# Altium schematic symbol library dsPIC30F3011.SCHLIB: 1 symbol
Pins are listed as number, name and electrical type; pins without a type are passive.

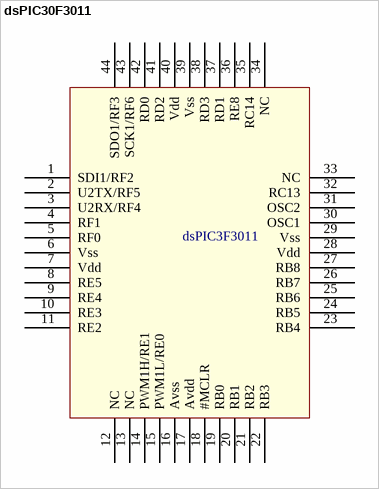
[diagram p0: symbol dsPIC30F3011]

## dsPIC30F3011
designator dsPIC3F3011  (value not drawn)
footprint QFP7x7-G32/N (32-Pin Plastic Thin Quad Flat Pack (TFQP))
pins: 1 SDI1/RF2, 2 U2TX/RF5, 3 U2RX/RF4, 4 RF1, 5 RF0, 6 Vss, 7 Vdd, 8 RE5, 9 RE4, 10 RE3, 11 RE2, 12 NC, 13 NC, 14 PWM1H/RE1, 15 PWM1L/RE0, 16 Avss, 17 Avdd, 18 #MCLR, 19 RB0, 20 RB1, 21 RB2, 22 RB3, 23 RB4, 24 RB5, 25 RB6, 26 RB7, 27 RB8, 28 Vdd, 29 Vss, 30 OSC1, 31 OSC2, 32 RC13, 33 NC, 34 NC, 35 RC14, 36 RE8, 37 RD1, 38 RD3, 39 Vss, 40 Vdd, 41 RD2, 42 RD0, 43 SCK1/RF6, 44 SDO1/RF3